# Altium schematic symbol library WL-SMTW.SchLib: 56 symbols (part 1 of 2)
Pins are listed as number, name and electrical type; pins without a type are passive.

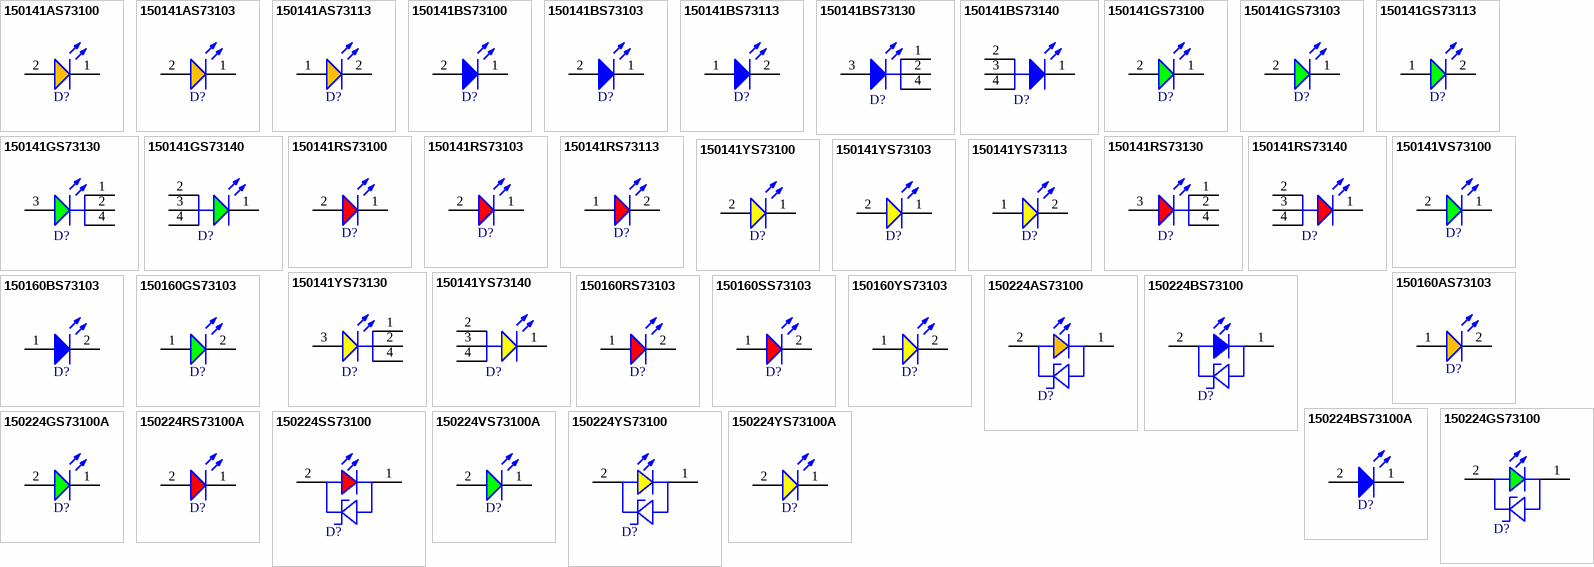
[diagram p0: symbols 150141AS73100 to 150224YS73100A]

## 150141AS73100
designator D?, comment Amber, 2V, 120°  (value not drawn)
WL-SMTW Mono-color TOP LED Waterclear, SMT, size 3528, Amber, 2V, 120°; Manufacturer Part Number: 150141AS73100; Manufacturer: Wurth Elektronik; Case/Size Code: 3528; Chip Technology: AlInGaP; Dominant Wavelength: 605nm; Luminous Intensity: 330mcd; Peak Wavelength: 610nm; Category: Signal LEDs; Match Code: WL-SMTW; ComponentLink1Description: Website Link; ComponentLink1URL: https://www.we-online.com/redexpert/article/150141AS73100?ad; ComponentLink2Description: Datasheet Link; ComponentLink2URL: https://www.we-online.com/redexpert/spec/150141AS73100?ad; Mount: Surface Mount; Operating Temperature Max: 85°C; Operating Temperature Min: -40°C; Packaging: Tape and Reel; Length: 3.5mm; Width: 2.8mm; Height: 1.9mm; Emitting Color: Amber; Forward Voltage: 2V; Viewing Angle: 120°
footprint WL-SMTW_3528
simulation model 3528_150141AS73100
pins: 1 K, 2 A

## 150141AS73103
designator D?, comment Amber, 2.1V, 120°  (value not drawn)
WL-SMTW Mono-color TOP LED Waterclear, SMT, size 3528 HIGHTA, Amber, 2.1V, 120°; Manufacturer Part Number: 150141AS73103; Manufacturer: Wurth Elektronik; Chip Technology: AlGaInP; Dominant Wavelength: 605nm; Luminous Intensity: 320mcd; Peak Wavelength: 610nm; Category: Signal LEDs; Match Code: WL-SMTW; ComponentLink1Description: Website Link; ComponentLink1URL: https://www.we-online.com/redexpert/article/150141AS73103?ad; ComponentLink2Description: Datasheet Link; ComponentLink2URL: https://www.we-online.com/redexpert/spec/150141AS73103?ad; Mount: Surface Mount; Operating Temperature Max: 100°C; Operating Temperature Min: -40°C; Packaging: Tape and Reel; Case/Size Code: 3528 HIGHTA; Length: 3.5mm; Width: 2.8mm; Height: 1.85mm; Emitting Color: Amber; Forward Voltage: 2.1V; Viewing Angle: 120°
footprint WL-SMTW_3528 HIGHTA
pins: 1 K, 2 A

## 150141AS73113
designator D?, comment Amber, 2.2V, 120°  (value not drawn)
WL-SMTW Mono-color TOP LED Waterclear, SMT, size 3528 Advance, Amber, 2.2V, 120°; Manufacturer Part Number: 150141AS73113; Manufacturer: Wurth Elektronik; Chip Technology: AlInGaP; Dominant Wavelength: 609nm; Luminous Intensity: 800mcd; Peak Wavelength: 615nm; Category: Signal LEDs; Match Code: WL-SMTW; ComponentLink1Description: Website Link; ComponentLink1URL: https://www.we-online.com/redexpert/article/150141AS73113?ad; ComponentLink2Description: Datasheet Link; ComponentLink2URL: https://www.we-online.com/redexpert/spec/150141AS73113?ad; Mount: Surface Mount; Operating Temperature Max: 85°C; Operating Temperature Min: -40°C; Packaging: Tape and Reel; Case/Size Code: 3528 Advance; Length: 3.5mm; Width: 2.8mm; Height: 1.9mm; Emitting Color: Amber; Forward Voltage: 2.2V; Viewing Angle: 120°
footprint WL-SMTW_3528 Advance
simulation model 3528_150141AS73113
pins: 1 A, 2 K

## 150141BS73100
designator D?, comment Blue, 3.2V, 120°  (value not drawn)
WL-SMTW Mono-color TOP LED Waterclear, SMT, size 3528, Blue, 3.2V, 120°; Manufacturer Part Number: 150141BS73100; Manufacturer: Wurth Elektronik; Case/Size Code: 3528; Chip Technology: InGaN; Dominant Wavelength: 470nm; Luminous Intensity: 270mcd; Peak Wavelength: 465nm; Category: Signal LEDs; Match Code: WL-SMTW; ComponentLink1Description: Website Link; ComponentLink1URL: https://www.we-online.com/redexpert/article/150141BS73100?ad; ComponentLink2Description: Datasheet Link; ComponentLink2URL: https://www.we-online.com/redexpert/spec/150141BS73100?ad; Mount: Surface Mount; Operating Temperature Max: 85°C; Operating Temperature Min: -40°C; Packaging: Tape and Reel; Length: 3.5mm; Width: 2.8mm; Height: 1.9mm; Emitting Color: Blue; Forward Voltage: 3.2V; Viewing Angle: 120°
footprint WL-SMTW_3528
simulation model 3528_150141BS73100
pins: 1 K, 2 A

## 150141BS73103
designator D?, comment Blue, 3V, 120°  (value not drawn)
WL-SMTW Mono-color TOP LED Waterclear, SMT, size 3528 HIGHTA, Blue, 3V, 120°; Manufacturer Part Number: 150141BS73103; Manufacturer: Wurth Elektronik; Chip Technology: InGaN; Dominant Wavelength: 470nm; Luminous Intensity: 440mcd; Peak Wavelength: 465nm; Category: Signal LEDs; Match Code: WL-SMTW; ComponentLink1Description: Website Link; ComponentLink1URL: https://www.we-online.com/redexpert/article/150141BS73103?ad; ComponentLink2Description: Datasheet Link; ComponentLink2URL: https://www.we-online.com/redexpert/spec/150141BS73103?ad; Mount: Surface Mount; Operating Temperature Max: 100°C; Operating Temperature Min: -40°C; Packaging: Tape and Reel; Case/Size Code: 3528 HIGHTA; Length: 3.5mm; Width: 2.8mm; Height: 1.85mm; Emitting Color: Blue; Forward Voltage: 3V; Viewing Angle: 120°
footprint WL-SMTW_3528 HIGHTA
pins: 1 K, 2 A

## 150141BS73113
designator D?, comment Blue, 3.2V, 120°  (value not drawn)
WL-SMTW Mono-color TOP LED Waterclear, SMT, size 3528 Advance, Blue, 3.2V, 120°; Manufacturer Part Number: 150141BS73113; Manufacturer: Wurth Elektronik; Chip Technology: InGaN; Dominant Wavelength: 467nm; Luminous Intensity: 530mcd; Peak Wavelength: 463nm; Category: Signal LEDs; Match Code: WL-SMTW; ComponentLink1Description: Website Link; ComponentLink1URL: https://www.we-online.com/redexpert/article/150141BS73113?ad; ComponentLink2Description: Datasheet Link; ComponentLink2URL: https://www.we-online.com/redexpert/spec/150141BS73113?ad; Mount: Surface Mount; Operating Temperature Max: 85°C; Operating Temperature Min: -40°C; Packaging: Tape and Reel; Case/Size Code: 3528 Advance; Length: 3.5mm; Width: 2.8mm; Height: 1.9mm; Emitting Color: Blue; Forward Voltage: 3.2V; Viewing Angle: 120°
footprint WL-SMTW_3528 Advance
simulation model 3528_150141BS73113
pins: 1 A, 2 K

## 150141BS73130
designator D?, comment Blue, 3.2V, 120°  (value not drawn)
WL-SMTW Mono-color TOP LED Waterclear, SMT, size 3528 LPCC 4, Blue, 3.2V, 120°; Manufacturer Part Number: 150141BS73130; Manufacturer: Wurth Elektronik; Chip Technology: InGaN; Dominant Wavelength: 470nm; Luminous Intensity: 1000mcd; Peak Wavelength: 465nm; Category: Signal LEDs; Match Code: WL-SMTW; ComponentLink1Description: Website Link; ComponentLink1URL: https://www.we-online.com/redexpert/article/150141BS73130?ad; ComponentLink2Description: Datasheet Link; ComponentLink2URL: https://www.we-online.com/redexpert/spec/150141BS73130?ad; Mount: Surface Mount; Operating Temperature Max: 85°C; Operating Temperature Min: -40°C; Packaging: Tape and Reel; Case/Size Code: 3528 LPCC 4; Length: 3.5mm; Width: 2.8mm; Height: 1.85mm; Emitting Color: Blue; Forward Voltage: 3.2V; Viewing Angle: 120°
footprint WL-SMTW_3528 LPCC 4
simulation model 3528_150141BS73130
pins: 1 K, 2 K, 3 A, 4 K

## 150141BS73140
designator D?, comment Blue, 3.2V, 120°  (value not drawn)
WL-SMTW Mono-color TOP LED Waterclear, SMT, size 3528 LPCC 4, Blue, 3.2V, 120°; Manufacturer Part Number: 150141BS73140; Manufacturer: Wurth Elektronik; Chip Technology: InGaN; Dominant Wavelength: 470nm; Luminous Intensity: 1000mcd; Peak Wavelength: 465nm; Category: Signal LEDs; Match Code: WL-SMTW; ComponentLink1Description: Website Link; ComponentLink1URL: https://www.we-online.com/redexpert/article/150141BS73140?ad; ComponentLink2Description: Datasheet Link; ComponentLink2URL: https://www.we-online.com/redexpert/spec/150141BS73140?ad; Mount: Surface Mount; Operating Temperature Max: 85°C; Operating Temperature Min: -40°C; Packaging: Tape and Reel; Case/Size Code: 3528 LPCC 4; Length: 3.5mm; Width: 2.8mm; Height: 1.85mm; Emitting Color: Blue; Forward Voltage: 3.2V; Viewing Angle: 120°
footprint WL-SMTW_3528 LPCC 4
simulation model 3528_150141BS73140
pins: 1 K, 2 A, 3 A, 4 A

## 150141GS73100
designator D?, comment Green, 3.1V, 120°  (value not drawn)
WL-SMTW Mono-color TOP LED Waterclear, SMT, size 3528, Green, 3.1V, 120°; Manufacturer Part Number: 150141GS73100; Manufacturer: Wurth Elektronik; Case/Size Code: 3528; Chip Technology: InGaN; Dominant Wavelength: 525nm; Luminous Intensity: 1000mcd; Peak Wavelength: 515nm; Category: Signal LEDs; Match Code: WL-SMTW; ComponentLink1Description: Website Link; ComponentLink1URL: https://www.we-online.com/redexpert/article/150141GS73100?ad; ComponentLink2Description: Datasheet Link; ComponentLink2URL: https://www.we-online.com/redexpert/spec/150141GS73100?ad; Mount: Surface Mount; Operating Temperature Max: 85°C; Operating Temperature Min: -40°C; Packaging: Tape and Reel; Length: 3.5mm; Width: 2.8mm; Height: 1.9mm; Emitting Color: Green; Forward Voltage: 3.1V; Viewing Angle: 120°
footprint WL-SMTW_3528
simulation model 3528_150141GS73100
pins: 1 K, 2 A

## 150141GS73103
designator D?, comment Green, 3V, 120°  (value not drawn)
WL-SMTW Mono-color TOP LED Waterclear, SMT, size 3528 HIGHTA, Green, 3V, 120°; Manufacturer Part Number: 150141GS73103; Manufacturer: Wurth Elektronik; Chip Technology: InGaN; Dominant Wavelength: 525nm; Luminous Intensity: 2100mcd; Peak Wavelength: 515nm; Category: Signal LEDs; Match Code: WL-SMTW; ComponentLink1Description: Website Link; ComponentLink1URL: https://www.we-online.com/redexpert/article/150141GS73103?ad; ComponentLink2Description: Datasheet Link; ComponentLink2URL: https://www.we-online.com/redexpert/spec/150141GS73103?ad; Mount: Surface Mount; Operating Temperature Max: 100°C; Operating Temperature Min: -40°C; Packaging: Tape and Reel; Case/Size Code: 3528 HIGHTA; Length: 3.5mm; Width: 2.8mm; Height: 1.85mm; Emitting Color: Green; Forward Voltage: 3V; Viewing Angle: 120°
footprint WL-SMTW_3528 HIGHTA
pins: 1 K, 2 A

## 150141GS73113
designator D?, comment Green, 3V, 120°  (value not drawn)
WL-SMTW Mono-color TOP LED Waterclear, SMT, size 3528 Advance, Green, 3V, 120°; Manufacturer Part Number: 150141GS73113; Manufacturer: Wurth Elektronik; Chip Technology: InGaN; Dominant Wavelength: 522nm; Luminous Intensity: 2500mcd; Peak Wavelength: 517nm; Category: Signal LEDs; Match Code: WL-SMTW; ComponentLink1Description: Website Link; ComponentLink1URL: https://www.we-online.com/redexpert/article/150141GS73113?ad; ComponentLink2Description: Datasheet Link; ComponentLink2URL: https://www.we-online.com/redexpert/spec/150141GS73113?ad; Mount: Surface Mount; Operating Temperature Max: 85°C; Operating Temperature Min: -40°C; Packaging: Tape and Reel; Case/Size Code: 3528 Advance; Length: 3.5mm; Width: 2.8mm; Height: 1.9mm; Emitting Color: Green; Forward Voltage: 3V; Viewing Angle: 120°
footprint WL-SMTW_3528 Advance
simulation model 3528_150141GS73113
pins: 1 A, 2 K

## 150141GS73130
designator D?, comment Green, 3.2V, 120°  (value not drawn)
WL-SMTW Mono-color TOP LED Waterclear, SMT, size 3528 LPCC 4, Green, 3.2V, 120°; Manufacturer Part Number: 150141GS73130; Manufacturer: Wurth Elektronik; Chip Technology: InGaN; Dominant Wavelength: 520nm; Luminous Intensity: 5000mcd; Peak Wavelength: 515nm; Category: Signal LEDs; Match Code: WL-SMTW; ComponentLink1Description: Website Link; ComponentLink1URL: https://www.we-online.com/redexpert/article/150141GS73130?ad; ComponentLink2Description: Datasheet Link; ComponentLink2URL: https://www.we-online.com/redexpert/spec/150141GS73130?ad; Mount: Surface Mount; Operating Temperature Max: 85°C; Operating Temperature Min: -40°C; Packaging: Tape and Reel; Case/Size Code: 3528 LPCC 4; Length: 3.5mm; Width: 2.8mm; Height: 1.85mm; Emitting Color: Green; Forward Voltage: 3.2V; Viewing Angle: 120°
footprint WL-SMTW_3528 LPCC 4
simulation model 3528_150141GS73130
pins: 1 K, 2 K, 3 A, 4 K

## 150141GS73140
designator D?, comment Green, 3.2V, 120°  (value not drawn)
WL-SMTW Mono-color TOP LED Waterclear, SMT, size 3528 LPCC 4, Green, 3.2V, 120°; Manufacturer Part Number: 150141GS73140; Manufacturer: Wurth Elektronik; Chip Technology: InGaN; Dominant Wavelength: 520nm; Luminous Intensity: 5000mcd; Peak Wavelength: 515nm; Category: Signal LEDs; Match Code: WL-SMTW; ComponentLink1Description: Website Link; ComponentLink1URL: https://www.we-online.com/redexpert/article/150141GS73140?ad; ComponentLink2Description: Datasheet Link; ComponentLink2URL: https://www.we-online.com/redexpert/spec/150141GS73140?ad; Mount: Surface Mount; Operating Temperature Max: 85°C; Operating Temperature Min: -40°C; Packaging: Tape and Reel; Case/Size Code: 3528 LPCC 4; Length: 3.5mm; Width: 2.8mm; Height: 1.85mm; Emitting Color: Green; Forward Voltage: 3.2V; Viewing Angle: 120°
footprint WL-SMTW_3528 LPCC 4
simulation model 3528_150141GS73140
pins: 1 K, 2 A, 3 A, 4 A

## 150141RS73100
designator D?, comment Red, 2V, 120°  (value not drawn)
WL-SMTW Mono-color TOP LED Waterclear, SMT, size 3528, Red, 2V, 120°; Manufacturer Part Number: 150141RS73100; Manufacturer: Wurth Elektronik; Case/Size Code: 3528; Chip Technology: AlInGaP; Dominant Wavelength: 625nm; Luminous Intensity: 300mcd; Peak Wavelength: 630nm; Category: Signal LEDs; Match Code: WL-SMTW; ComponentLink1Description: Website Link; ComponentLink1URL: https://www.we-online.com/redexpert/article/150141RS73100?ad; ComponentLink2Description: Datasheet Link; ComponentLink2URL: https://www.we-online.com/redexpert/spec/150141RS73100?ad; Mount: Surface Mount; Operating Temperature Max: 85°C; Operating Temperature Min: -40°C; Packaging: Tape and Reel; Length: 3.5mm; Width: 2.8mm; Height: 1.9mm; Emitting Color: Red; Forward Voltage: 2V; Viewing Angle: 120°
footprint WL-SMTW_3528
simulation model 3528_150141RS73100
pins: 1 K, 2 A

## 150141RS73103
designator D?, comment Red, 2.1V, 120°  (value not drawn)
WL-SMTW Mono-color TOP LED Waterclear, SMT, size 3528 HIGHTA, Red, 2.1V, 120°; Manufacturer Part Number: 150141RS73103; Manufacturer: Wurth Elektronik; Chip Technology: AlGaInP; Dominant Wavelength: 625nm; Luminous Intensity: 280mcd; Peak Wavelength: 630nm; Category: Signal LEDs; Match Code: WL-SMTW; ComponentLink1Description: Website Link; ComponentLink1URL: https://www.we-online.com/redexpert/article/150141RS73103?ad; ComponentLink2Description: Datasheet Link; ComponentLink2URL: https://www.we-online.com/redexpert/spec/150141RS73103?ad; Mount: Surface Mount; Operating Temperature Max: 100°C; Operating Temperature Min: -40°C; Packaging: Tape and Reel; Case/Size Code: 3528 HIGHTA; Length: 3.5mm; Width: 2.8mm; Height: 1.85mm; Emitting Color: Red; Forward Voltage: 2.1V; Viewing Angle: 120°
footprint WL-SMTW_3528 HIGHTA
pins: 1 K, 2 A

## 150141RS73113
designator D?, comment Red, 2.2V, 120°  (value not drawn)
WL-SMTW Mono-color TOP LED Waterclear, SMT, size 3528 Advance, Red, 2.2V, 120°; Manufacturer Part Number: 150141RS73113; Manufacturer: Wurth Elektronik; Chip Technology: AlInGaP; Dominant Wavelength: 620nm; Luminous Intensity: 900mcd; Peak Wavelength: 629nm; Category: Signal LEDs; Match Code: WL-SMTW; ComponentLink1Description: Website Link; ComponentLink1URL: https://www.we-online.com/redexpert/article/150141RS73113?ad; ComponentLink2Description: Datasheet Link; ComponentLink2URL: https://www.we-online.com/redexpert/spec/150141RS73113?ad; Mount: Surface Mount; Operating Temperature Max: 85°C; Operating Temperature Min: -40°C; Packaging: Tape and Reel; Case/Size Code: 3528 Advance; Length: 3.5mm; Width: 2.8mm; Height: 1.9mm; Emitting Color: Red; Forward Voltage: 2.2V; Viewing Angle: 120°
footprint WL-SMTW_3528 Advance
simulation model 3528_150141RS73113
pins: 1 A, 2 K

## 150141RS73130
designator D?, comment Red, 2.4V, 120°  (value not drawn)
WL-SMTW Mono-color TOP LED Waterclear, SMT, size 3528 LPCC 4, Red, 2.4V, 120°; Manufacturer Part Number: 150141RS73130; Manufacturer: Wurth Elektronik; Chip Technology: AlInGaP; Dominant Wavelength: 620nm; Luminous Intensity: 3000mcd; Peak Wavelength: 630nm; Category: Signal LEDs; Match Code: WL-SMTW; ComponentLink1Description: Website Link; ComponentLink1URL: https://www.we-online.com/redexpert/article/150141RS73130?ad; ComponentLink2Description: Datasheet Link; ComponentLink2URL: https://www.we-online.com/redexpert/spec/150141RS73130?ad; Mount: Surface Mount; Operating Temperature Max: 85°C; Operating Temperature Min: -40°C; Packaging: Tape and Reel; Case/Size Code: 3528 LPCC 4; Length: 3.5mm; Width: 2.8mm; Height: 1.85mm; Emitting Color: Red; Forward Voltage: 2.4V; Viewing Angle: 120°
footprint WL-SMTW_3528 LPCC 4
simulation model 3528_150141RS73130
pins: 1 K, 2 K, 3 A, 4 K

## 150141RS73140
designator D?, comment Red, 2.4V, 120°  (value not drawn)
WL-SMTW Mono-color TOP LED Waterclear, SMT, size 3528 LPCC 4, Red, 2.4V, 120°; Manufacturer Part Number: 150141RS73140; Manufacturer: Wurth Elektronik; Chip Technology: AlInGaP; Dominant Wavelength: 620nm; Luminous Intensity: 3000mcd; Peak Wavelength: 630nm; Category: Signal LEDs; Match Code: WL-SMTW; ComponentLink1Description: Website Link; ComponentLink1URL: https://www.we-online.com/redexpert/article/150141RS73140?ad; ComponentLink2Description: Datasheet Link; ComponentLink2URL: https://www.we-online.com/redexpert/spec/150141RS73140?ad; Mount: Surface Mount; Operating Temperature Max: 85°C; Operating Temperature Min: -40°C; Packaging: Tape and Reel; Case/Size Code: 3528 LPCC 4; Length: 3.5mm; Width: 2.8mm; Height: 1.85mm; Emitting Color: Red; Forward Voltage: 2.4V; Viewing Angle: 120°
footprint WL-SMTW_3528 LPCC 4
simulation model 3528_150141RS73140
pins: 1 K, 2 A, 3 A, 4 A

## 150141VS73100
designator D?, comment Bright Green, 2V, 120°  (value not drawn)
WL-SMTW Mono-color TOP LED Waterclear, SMT, size 3528, Bright Green, 2V, 120°; Manufacturer Part Number: 150141VS73100; Manufacturer: Wurth Elektronik; Case/Size Code: 3528; Chip Technology: AlInGaP; Dominant Wavelength: 570nm; Luminous Intensity: 90mcd; Peak Wavelength: 572nm; Category: Signal LEDs; Match Code: WL-SMTW; ComponentLink1Description: Website Link; ComponentLink1URL: https://www.we-online.com/redexpert/article/150141VS73100?ad; ComponentLink2Description: Datasheet Link; ComponentLink2URL: https://www.we-online.com/redexpert/spec/150141VS73100?ad; Mount: Surface Mount; Operating Temperature Max: 85°C; Operating Temperature Min: -40°C; Packaging: Tape and Reel; Length: 3.5mm; Width: 2.8mm; Height: 1.9mm; Emitting Color: Bright Green; Forward Voltage: 2V; Viewing Angle: 120°
footprint WL-SMTW_3528
simulation model 3528_150141VS73100
pins: 1 K, 2 A

## 150141YS73100
designator D?, comment Yellow, 2V, 120°  (value not drawn)
WL-SMTW Mono-color TOP LED Waterclear, SMT, size 3528, Yellow, 2V, 120°; Manufacturer Part Number: 150141YS73100; Manufacturer: Wurth Elektronik; Case/Size Code: 3528; Chip Technology: AlInGaP; Dominant Wavelength: 590nm; Luminous Intensity: 260mcd; Peak Wavelength: 592nm; Category: Signal LEDs; Match Code: WL-SMTW; ComponentLink1Description: Website Link; ComponentLink1URL: https://www.we-online.com/redexpert/article/150141YS73100?ad; ComponentLink2Description: Datasheet Link; ComponentLink2URL: https://www.we-online.com/redexpert/spec/150141YS73100?ad; Mount: Surface Mount; Operating Temperature Max: 85°C; Operating Temperature Min: -40°C; Packaging: Tape and Reel; Length: 3.5mm; Width: 2.8mm; Height: 1.9mm; Emitting Color: Yellow; Forward Voltage: 2V; Viewing Angle: 120°
footprint WL-SMTW_3528
simulation model 3528_150141YS73100
pins: 1 K, 2 A

## 150141YS73103
designator D?, comment Yellow, 2.1V, 120°  (value not drawn)
WL-SMTW Mono-color TOP LED Waterclear, SMT, size 3528 HIGHTA, Yellow, 2.1V, 120°; Manufacturer Part Number: 150141YS73103; Manufacturer: Wurth Elektronik; Chip Technology: AlGaInP; Dominant Wavelength: 590nm; Luminous Intensity: 370mcd; Peak Wavelength: 592nm; Category: Signal LEDs; Match Code: WL-SMTW; ComponentLink1Description: Website Link; ComponentLink1URL: https://www.we-online.com/redexpert/article/150141YS73103?ad; ComponentLink2Description: Datasheet Link; ComponentLink2URL: https://www.we-online.com/redexpert/spec/150141YS73103?ad; Mount: Surface Mount; Operating Temperature Max: 100°C; Operating Temperature Min: -40°C; Packaging: Tape and Reel; Case/Size Code: 3528 HIGHTA; Length: 3.5mm; Width: 2.8mm; Height: 1.85mm; Emitting Color: Yellow; Forward Voltage: 2.1V; Viewing Angle: 120°
footprint WL-SMTW_3528 HIGHTA
pins: 1 K, 2 A

## 150141YS73113
designator D?, comment Yellow, 2.2V, 120°  (value not drawn)
WL-SMTW Mono-color TOP LED Waterclear, SMT, size 3528 Advance, Yellow, 2.2V, 120°; Manufacturer Part Number: 150141YS73113; Manufacturer: Wurth Elektronik; Chip Technology: AlInGaP; Dominant Wavelength: 590nm; Luminous Intensity: 1000mcd; Peak Wavelength: 592nm; Category: Signal LEDs; Match Code: WL-SMTW; ComponentLink1Description: Website Link; ComponentLink1URL: https://www.we-online.com/redexpert/article/150141YS73113?ad; ComponentLink2Description: Datasheet Link; ComponentLink2URL: https://www.we-online.com/redexpert/spec/150141YS73113?ad; Mount: Surface Mount; Operating Temperature Max: 85°C; Operating Temperature Min: -40°C; Packaging: Tape and Reel; Case/Size Code: 3528 Advance; Length: 3.5mm; Width: 2.8mm; Height: 1.9mm; Emitting Color: Yellow; Forward Voltage: 2.2V; Viewing Angle: 120°
footprint WL-SMTW_3528 Advance
simulation model 3528_150141YS73113
pins: 1 A, 2 K

## 150141YS73130
designator D?, comment Yellow, 2.4V, 120°  (value not drawn)
WL-SMTW Mono-color TOP LED Waterclear, SMT, size 3528 LPCC 4, Yellow, 2.4V, 120°; Manufacturer Part Number: 150141YS73130; Manufacturer: Wurth Elektronik; Chip Technology: AlInGaP; Dominant Wavelength: 590nm; Luminous Intensity: 2000mcd; Peak Wavelength: 592nm; Category: Signal LEDs; Match Code: WL-SMTW; ComponentLink1Description: Website Link; ComponentLink1URL: https://www.we-online.com/redexpert/article/150141YS73130?ad; ComponentLink2Description: Datasheet Link; ComponentLink2URL: https://www.we-online.com/redexpert/spec/150141YS73130?ad; Mount: Surface Mount; Operating Temperature Max: 85°C; Operating Temperature Min: -40°C; Packaging: Tape and Reel; Case/Size Code: 3528 LPCC 4; Length: 3.5mm; Width: 2.8mm; Height: 1.85mm; Emitting Color: Yellow; Forward Voltage: 2.4V; Viewing Angle: 120°
footprint WL-SMTW_3528 LPCC 4
simulation model 3528_150141YS73130
pins: 1 K, 2 K, 3 A, 4 K

## 150141YS73140
designator D?, comment Yellow, 2.4V, 120°  (value not drawn)
WL-SMTW Mono-color TOP LED Waterclear, SMT, size 3528 LPCC 4, Yellow, 2.4V, 120°; Manufacturer Part Number: 150141YS73140; Manufacturer: Wurth Elektronik; Chip Technology: AlInGaP; Dominant Wavelength: 590nm; Luminous Intensity: 2000mcd; Peak Wavelength: 592nm; Category: Signal LEDs; Match Code: WL-SMTW; ComponentLink1Description: Website Link; ComponentLink1URL: https://www.we-online.com/redexpert/article/150141YS73140?ad; ComponentLink2Description: Datasheet Link; ComponentLink2URL: https://www.we-online.com/redexpert/spec/150141YS73140?ad; Mount: Surface Mount; Operating Temperature Max: 85°C; Operating Temperature Min: -40°C; Packaging: Tape and Reel; Case/Size Code: 3528 LPCC 4; Length: 3.5mm; Width: 2.8mm; Height: 1.85mm; Emitting Color: Yellow; Forward Voltage: 2.4V; Viewing Angle: 120°
footprint WL-SMTW_3528 LPCC 4
simulation model 3528_150141YS73140
pins: 1 K, 2 A, 3 A, 4 A

## 150160AS73103
designator D?, comment Amber, 2.1V, 120°  (value not drawn)
WL-SMTW Mono-color TOP LED Waterclear, SMT, size 1608, Amber, 2.1V, 120°; Manufacturer Part Number: 150160AS73103; Manufacturer: Wurth Elektronik; Case/Size Code: 1608; Chip Technology: AlGaInP; Dominant Wavelength: 605nm; Luminous Intensity: 700mcd; Peak Wavelength: 610nm; Category: Signal LEDs; Match Code: WL-SMTW; ComponentLink1Description: Website Link; ComponentLink1URL: https://www.we-online.com/redexpert/article/150160AS73103?ad; ComponentLink2Description: Datasheet Link; ComponentLink2URL: https://www.we-online.com/redexpert/spec/150160AS73103?ad; Mount: Surface Mount; Operating Temperature Max: 100°C; Operating Temperature Min: -40°C; Packaging: Tape and Reel; Length: 1.6mm; Width: 0.8mm; Height: 0.55mm; Emitting Color: Amber; Forward Voltage: 2.1V; Viewing Angle: 120°
footprint WL-SMTW_1608
pins: 1 A, 2 K

## 150160BS73103
designator D?, comment Blue, 3.1V, 120°  (value not drawn)
WL-SMTW Mono-color TOP LED Waterclear, SMT, size 1608, Blue, 3.1V, 120°; Manufacturer Part Number: 150160BS73103; Manufacturer: Wurth Elektronik; Case/Size Code: 1608; Chip Technology: InGaN; Dominant Wavelength: 470nm; Luminous Intensity: 400mcd; Peak Wavelength: 465nm; Category: Signal LEDs; Match Code: WL-SMTW; ComponentLink1Description: Website Link; ComponentLink1URL: https://www.we-online.com/redexpert/article/150160BS73103?ad; ComponentLink2Description: Datasheet Link; ComponentLink2URL: https://www.we-online.com/redexpert/spec/150160BS73103?ad; Mount: Surface Mount; Operating Temperature Max: 100°C; Operating Temperature Min: -40°C; Packaging: Tape and Reel; Length: 1.6mm; Width: 0.8mm; Height: 0.55mm; Emitting Color: Blue; Forward Voltage: 3.1V; Viewing Angle: 120°
footprint WL-SMTW_1608
pins: 1 A, 2 K

## 150160GS73103
designator D?, comment Green, 3.3V, 120°  (value not drawn)
WL-SMTW Mono-color TOP LED Waterclear, SMT, size 1608, Green, 3.3V, 120°; Manufacturer Part Number: 150160GS73103; Manufacturer: Wurth Elektronik; Case/Size Code: 1608; Chip Technology: InGaN; Dominant Wavelength: 525nm; Luminous Intensity: 1350mcd; Peak Wavelength: 515nm; Category: Signal LEDs; Match Code: WL-SMTW; ComponentLink1Description: Website Link; ComponentLink1URL: https://www.we-online.com/redexpert/article/150160GS73103?ad; ComponentLink2Description: Datasheet Link; ComponentLink2URL: https://www.we-online.com/redexpert/spec/150160GS73103?ad; Mount: Surface Mount; Operating Temperature Max: 100°C; Operating Temperature Min: -40°C; Packaging: Tape and Reel; Length: 1.6mm; Width: 0.8mm; Height: 0.55mm; Emitting Color: Green; Forward Voltage: 3.3V; Viewing Angle: 120°
footprint WL-SMTW_1608
pins: 1 A, 2 K

## 150160RS73103
designator D?, comment Red, 2.1V, 120°  (value not drawn)
WL-SMTW Mono-color TOP LED Waterclear, SMT, size 1608, Red, 2.1V, 120°; Manufacturer Part Number: 150160RS73103; Manufacturer: Wurth Elektronik; Case/Size Code: 1608; Chip Technology: AlGaInP; Dominant Wavelength: 625nm; Luminous Intensity: 800mcd; Peak Wavelength: 630nm; Category: Signal LEDs; Match Code: WL-SMTW; ComponentLink1Description: Website Link; ComponentLink1URL: https://www.we-online.com/redexpert/article/150160RS73103?ad; ComponentLink2Description: Datasheet Link; ComponentLink2URL: https://www.we-online.com/redexpert/spec/150160RS73103?ad; Mount: Surface Mount; Operating Temperature Max: 100°C; Operating Temperature Min: -40°C; Packaging: Tape and Reel; Length: 1.6mm; Width: 0.8mm; Height: 0.55mm; Emitting Color: Red; Forward Voltage: 2.1V; Viewing Angle: 120°
footprint WL-SMTW_1608
pins: 1 A, 2 K

## 150160SS73103
designator D?, comment Red, 2.1V, 120°  (value not drawn)
WL-SMTW Mono-color TOP LED Waterclear, SMT, size 1608, Red, 2.1V, 120°; Manufacturer Part Number: 150160SS73103; Manufacturer: Wurth Elektronik; Case/Size Code: 1608; Chip Technology: AlGaInP; Dominant Wavelength: 630nm; Luminous Intensity: 540mcd; Peak Wavelength: 640nm; Category: Signal LEDs; Match Code: WL-SMTW; ComponentLink1Description: Website Link; ComponentLink1URL: https://www.we-online.com/redexpert/article/150160SS73103?ad; ComponentLink2Description: Datasheet Link; ComponentLink2URL: https://www.we-online.com/redexpert/spec/150160SS73103?ad; Mount: Surface Mount; Operating Temperature Max: 100°C; Operating Temperature Min: -40°C; Packaging: Tape and Reel; Length: 1.6mm; Width: 0.8mm; Height: 0.55mm; Emitting Color: Red; Forward Voltage: 2.1V; Viewing Angle: 120°
footprint WL-SMTW_1608
pins: 1 A, 2 K

## 150160YS73103
designator D?, comment Yellow, 2.1V, 120°  (value not drawn)
WL-SMTW Mono-color TOP LED Waterclear, SMT, size 1608, Yellow, 2.1V, 120°; Manufacturer Part Number: 150160YS73103; Manufacturer: Wurth Elektronik; Case/Size Code: 1608; Chip Technology: AlGaInP; Dominant Wavelength: 590nm; Luminous Intensity: 700mcd; Peak Wavelength: 592nm; Category: Signal LEDs; Match Code: WL-SMTW; ComponentLink1Description: Website Link; ComponentLink1URL: https://www.we-online.com/redexpert/article/150160YS73103?ad; ComponentLink2Description: Datasheet Link; ComponentLink2URL: https://www.we-online.com/redexpert/spec/150160YS73103?ad; Mount: Surface Mount; Operating Temperature Max: 100°C; Operating Temperature Min: -40°C; Packaging: Tape and Reel; Length: 1.6mm; Width: 0.8mm; Height: 0.55mm; Emitting Color: Yellow; Forward Voltage: 2.1V; Viewing Angle: 120°
footprint WL-SMTW_1608
pins: 1 A, 2 K

## 150224AS73100
designator D?, comment Amber, 2V, 120°  (value not drawn)
WL-SMTW Mono-color TOP LED Waterclear, SMT, size 2214, Amber, 2V, 120°; Manufacturer Part Number: 150224AS73100; Manufacturer: Wurth Elektronik; Case/Size Code: 2214; Chip Technology: AlInGaP; Dominant Wavelength: 605nm; Luminous Intensity: 210mcd; Peak Wavelength: 609nm; Category: Signal LEDs; Match Code: WL-SMTW; ComponentLink1Description: Website Link; ComponentLink1URL: https://www.we-online.com/redexpert/article/150224AS73100?ad; ComponentLink2Description: Datasheet Link; ComponentLink2URL: https://www.we-online.com/redexpert/spec/150224AS73100?ad; Mount: Surface Mount; Operating Temperature Max: 85°C; Operating Temperature Min: -40°C; Packaging: Tape and Reel; Length: 2.3mm; Width: 1.4mm; Height: 1.31mm; Emitting Color: Amber; Forward Voltage: 2V; Viewing Angle: 120°
footprint WL-SMTW_2214
simulation model 2214_150224AS73100
pins: 1 K, 2 A

## 150224BS73100
designator D?, comment Blue, 3V, 120°  (value not drawn)
WL-SMTW Mono-color TOP LED Waterclear, SMT, size 2214, Blue, 3V, 120°; Manufacturer Part Number: 150224BS73100; Manufacturer: Wurth Elektronik; Case/Size Code: 2214; Chip Technology: InGaN; Dominant Wavelength: 456nm; Luminous Intensity: 220mcd; Peak Wavelength: 452nm; Category: Signal LEDs; Match Code: WL-SMTW; ComponentLink1Description: Website Link; ComponentLink1URL: https://www.we-online.com/redexpert/article/150224BS73100?ad; ComponentLink2Description: Datasheet Link; ComponentLink2URL: https://www.we-online.com/redexpert/spec/150224BS73100?ad; Mount: Surface Mount; Operating Temperature Max: 85°C; Operating Temperature Min: -40°C; Packaging: Tape and Reel; Length: 2.3mm; Width: 1.4mm; Height: 1.31mm; Emitting Color: Blue; Forward Voltage: 3V; Viewing Angle: 120°
footprint WL-SMTW_2214
simulation model 2214_150224BS73100
pins: 1 K, 2 A

## 150224BS73100A
designator D?, comment Blue, 3.2V, 120°  (value not drawn)
WL-SMTW Mono-color TOP LED Waterclear, SMT, size 2214, Blue, 3.2V, 120°; Manufacturer Part Number: 150224BS73100A; Manufacturer: Wurth Elektronik; Case/Size Code: 2214; Chip Technology: InGaN; Dominant Wavelength: 470nm; Luminous Intensity: 320mcd; Peak Wavelength: 465nm; Category: Signal LEDs; Match Code: WL-SMTW; ComponentLink1Description: Website Link; ComponentLink1URL: https://www.we-online.com/redexpert/article/150224BS73100A?ad; ComponentLink2Description: Datasheet Link; ComponentLink2URL: https://www.we-online.com/redexpert/spec/150224BS73100A?ad; Mount: Surface Mount; Operating Temperature Max: 85°C; Operating Temperature Min: -40°C; Packaging: Tape and Reel; Length: 2.3mm; Width: 1.4mm; Height: 1.31mm; Emitting Color: Blue; Forward Voltage: 3.2V; Viewing Angle: 120°
footprint WL-SMTW_2214
simulation model 2214_150224BS73100A
pins: 1 K, 2 A

## 150224GS73100
designator D?, comment Green, 3V, 120°  (value not drawn)
WL-SMTW Mono-color TOP LED Waterclear, SMT, size 2214, Green, 3V, 120°; Manufacturer Part Number: 150224GS73100; Manufacturer: Wurth Elektronik; Case/Size Code: 2214; Chip Technology: InGaN; Dominant Wavelength: 528nm; Luminous Intensity: 1200mcd; Peak Wavelength: 519nm; Category: Signal LEDs; Match Code: WL-SMTW; ComponentLink1Description: Website Link; ComponentLink1URL: https://www.we-online.com/redexpert/article/150224GS73100?ad; ComponentLink2Description: Datasheet Link; ComponentLink2URL: https://www.we-online.com/redexpert/spec/150224GS73100?ad; Mount: Surface Mount; Operating Temperature Max: 85°C; Operating Temperature Min: -40°C; Packaging: Tape and Reel; Length: 2.3mm; Width: 1.4mm; Height: 1.31mm; Emitting Color: Green; Forward Voltage: 3V; Viewing Angle: 120°
footprint WL-SMTW_2214
simulation model 2214_150224GS73100
pins: 1 K, 2 A

## 150224GS73100A
designator D?, comment Green, 3.1V, 120°  (value not drawn)
WL-SMTW Mono-color TOP LED Waterclear, SMT, size 2214, Green, 3.1V, 120°; Manufacturer Part Number: 150224GS73100A; Manufacturer: Wurth Elektronik; Case/Size Code: 2214; Chip Technology: InGaN; Dominant Wavelength: 525nm; Luminous Intensity: 1500mcd; Peak Wavelength: 515nm; Category: Signal LEDs; Match Code: WL-SMTW; ComponentLink1Description: Website Link; ComponentLink1URL: https://www.we-online.com/redexpert/article/150224GS73100A?ad; ComponentLink2Description: Datasheet Link; ComponentLink2URL: https://www.we-online.com/redexpert/spec/150224GS73100A?ad; Mount: Surface Mount; Operating Temperature Max: 85°C; Operating Temperature Min: -40°C; Packaging: Tape and Reel; Length: 2.3mm; Width: 1.4mm; Height: 1.31mm; Emitting Color: Green; Forward Voltage: 3.1V; Viewing Angle: 120°
footprint WL-SMTW_2214
simulation model 2214_150224GS73100A
pins: 1 K, 2 A

## 150224RS73100A
designator D?, comment Red, 2V, 120°  (value not drawn)
WL-SMTW Mono-color TOP LED Waterclear, SMT, size 2214, Red, 2V, 120°; Manufacturer Part Number: 150224RS73100A; Manufacturer: Wurth Elektronik; Case/Size Code: 2214; Chip Technology: AlInGaP; Dominant Wavelength: 625nm; Luminous Intensity: 350mcd; Peak Wavelength: 630nm; Category: Signal LEDs; Match Code: WL-SMTW; ComponentLink1Description: Website Link; ComponentLink1URL: https://www.we-online.com/redexpert/article/150224RS73100A?ad; ComponentLink2Description: Datasheet Link; ComponentLink2URL: https://www.we-online.com/redexpert/spec/150224RS73100A?ad; Mount: Surface Mount; Operating Temperature Max: 85°C; Operating Temperature Min: -40°C; Packaging: Tape and Reel; Length: 2.3mm; Width: 1.4mm; Height: 1.31mm; Emitting Color: Red; Forward Voltage: 2V; Viewing Angle: 120°
footprint WL-SMTW_2214
simulation model 2214_150224RS73100A
pins: 1 K, 2 A

## 150224SS73100
designator D?, comment Super Red, 2.1V, 120°  (value not drawn)
WL-SMTW Mono-color TOP LED Waterclear, SMT, size 2214, Super Red, 2.1V, 120°; Manufacturer Part Number: 150224SS73100; Manufacturer: Wurth Elektronik; Case/Size Code: 2214; Chip Technology: AlInGaP; Dominant Wavelength: 636nm; Luminous Intensity: 130mcd; Peak Wavelength: 652nm; Category: Signal LEDs; Match Code: WL-SMTW; ComponentLink1Description: Website Link; ComponentLink1URL: https://www.we-online.com/redexpert/article/150224SS73100?ad; ComponentLink2Description: Datasheet Link; ComponentLink2URL: https://www.we-online.com/redexpert/spec/150224SS73100?ad; Mount: Surface Mount; Operating Temperature Max: 85°C; Operating Temperature Min: -40°C; Packaging: Tape and Reel; Length: 2.3mm; Width: 1.4mm; Height: 1.31mm; Emitting Color: Super Red; Forward Voltage: 2.1V; Viewing Angle: 120°
footprint WL-SMTW_2214
simulation model 2214_150224SS73100
pins: 1 K, 2 A

## 150224VS73100A
designator D?, comment Bright Green, 2V, 120°  (value not drawn)
WL-SMTW Mono-color TOP LED Waterclear, SMT, size 2214, Bright Green, 2V, 120°; Manufacturer Part Number: 150224VS73100A; Manufacturer: Wurth Elektronik; Case/Size Code: 2214; Chip Technology: AlInGaP; Dominant Wavelength: 570nm; Luminous Intensity: 70mcd; Peak Wavelength: 572nm; Category: Signal LEDs; Match Code: WL-SMTW; ComponentLink1Description: Website Link; ComponentLink1URL: https://www.we-online.com/redexpert/article/150224VS73100A?ad; ComponentLink2Description: Datasheet Link; ComponentLink2URL: https://www.we-online.com/redexpert/spec/150224VS73100A?ad; Mount: Surface Mount; Operating Temperature Max: 85°C; Operating Temperature Min: -40°C; Packaging: Tape and Reel; Length: 2.3mm; Width: 1.4mm; Height: 1.31mm; Emitting Color: Bright Green; Forward Voltage: 2V; Viewing Angle: 120°
footprint WL-SMTW_2214
simulation model 2214_150224VS73100A
pins: 1 K, 2 A

## 150224YS73100
designator D?, comment Yellow, 2.1V, 120°  (value not drawn)
WL-SMTW Mono-color TOP LED Waterclear, SMT, size 2214, Yellow, 2.1V, 120°; Manufacturer Part Number: 150224YS73100; Manufacturer: Wurth Elektronik; Case/Size Code: 2214; Chip Technology: AlInGaP; Dominant Wavelength: 586nm; Luminous Intensity: 290mcd; Peak Wavelength: 589nm; Category: Signal LEDs; Match Code: WL-SMTW; ComponentLink1Description: Website Link; ComponentLink1URL: https://www.we-online.com/redexpert/article/150224YS73100?ad; ComponentLink2Description: Datasheet Link; ComponentLink2URL: https://www.we-online.com/redexpert/spec/150224YS73100?ad; Mount: Surface Mount; Operating Temperature Max: 85°C; Operating Temperature Min: -40°C; Packaging: Tape and Reel; Length: 2.3mm; Width: 1.4mm; Height: 1.31mm; Emitting Color: Yellow; Forward Voltage: 2.1V; Viewing Angle: 120°
footprint WL-SMTW_2214
simulation model 2214_150224YS73100
pins: 1 K, 2 A

## 150224YS73100A
designator D?, comment Yellow, 2V, 120°  (value not drawn)
WL-SMTW Mono-color TOP LED Waterclear, SMT, size 2214, Yellow, 2V, 120°; Manufacturer Part Number: 150224YS73100A; Manufacturer: Wurth Elektronik; Case/Size Code: 2214; Chip Technology: AlInGaP; Dominant Wavelength: 590nm; Luminous Intensity: 330mcd; Peak Wavelength: 592nm; Category: Signal LEDs; Match Code: WL-SMTW; ComponentLink1Description: Website Link; ComponentLink1URL: https://www.we-online.com/redexpert/article/150224YS73100A?ad; ComponentLink2Description: Datasheet Link; ComponentLink2URL: https://www.we-online.com/redexpert/spec/150224YS73100A?ad; Mount: Surface Mount; Operating Temperature Max: 85°C; Operating Temperature Min: -40°C; Packaging: Tape and Reel; Length: 2.3mm; Width: 1.4mm; Height: 1.31mm; Emitting Color: Yellow; Forward Voltage: 2V; Viewing Angle: 120°
footprint WL-SMTW_2214
simulation model 2214_150224YS73100A
pins: 1 K, 2 A

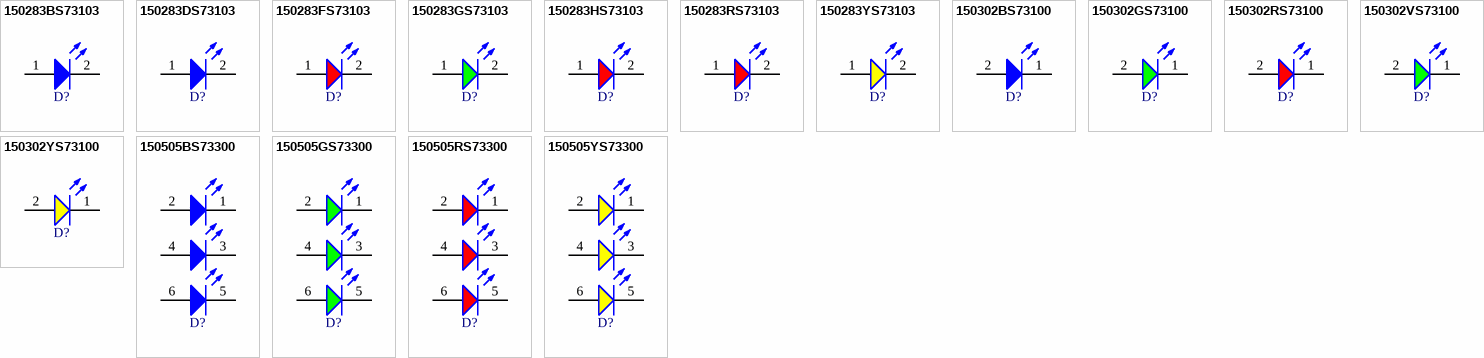
[diagram p1: symbols 150283BS73103 to 150505YS73300]

## 150283BS73103
designator D?, comment Blue, 3.2V, 120°  (value not drawn)
WL-SMTW Mono-color TOP LED Waterclear, SMT, size 2835, Blue, 3.2V, 120°; Manufacturer Part Number: 150283BS73103; Manufacturer: Wurth Elektronik; Case/Size Code: 2835; Chip Technology: InGaN; Dominant Wavelength: 467nm; Peak Wavelength: 463nm; Category: Signal LEDs; Match Code: WL-SMTW; ComponentLink1Description: Website Link; ComponentLink1URL: https://www.we-online.com/redexpert/article/150283BS73103?ad; ComponentLink2Description: Datasheet Link; ComponentLink2URL: https://www.we-online.com/redexpert/spec/150283BS73103?ad; Mount: Surface Mount; Operating Temperature Max: 85°C; Operating Temperature Min: -40°C; Packaging: Tape and Reel; Length: 3.5mm; Width: 2.8mm; Height: 0.8mm; Emitting Color: Blue; Forward Voltage: 3.2V; Viewing Angle: 120°
footprint WL-SMTW_2835
simulation model 2835_150283BS73103
pins: 1 A, 2 K

## 150283DS73103
designator D?, comment Deep Blue, 3.2V, 120°  (value not drawn)
WL-SMTW Mono-color TOP LED Waterclear, SMT, size 2835, Deep Blue, 3.2V, 120°; Manufacturer Part Number: 150283DS73103; Manufacturer: Wurth Elektronik; Case/Size Code: 2835; Chip Technology: InGaN; Peak Wavelength: 450nm; Category: Signal LEDs; Match Code: WL-SMTW; ComponentLink1Description: Website Link; ComponentLink1URL: https://www.we-online.com/redexpert/article/150283DS73103?ad; ComponentLink2Description: Datasheet Link; ComponentLink2URL: https://www.we-online.com/redexpert/spec/150283DS73103?ad; Mount: Surface Mount; Operating Temperature Max: 85°C; Operating Temperature Min: -40°C; Packaging: Tape and Reel; Length: 3.5mm; Width: 2.8mm; Height: 0.8mm; Emitting Color: Deep Blue; Forward Voltage: 3.2V; Viewing Angle: 120°
footprint WL-SMTW_2835
simulation model 2835_150283DS73103
pins: 1 A, 2 K

## 150283FS73103
designator D?, comment Far Red, 2.2V, 120°  (value not drawn)
WL-SMTW Mono-color TOP LED Waterclear, SMT, size 2835, Far Red, 2.2V, 120°; Manufacturer Part Number: 150283FS73103; Manufacturer: Wurth Elektronik; Case/Size Code: 2835; Chip Technology: AlInGaP; Emitting Color: Far Red; Peak Wavelength: 730nm; Category: Signal LEDs; Match Code: WL-SMTW; ComponentLink1Description: Website Link; ComponentLink1URL: https://www.we-online.com/redexpert/article/150283FS73103?ad; ComponentLink2Description: Datasheet Link; ComponentLink2URL: https://www.we-online.com/redexpert/spec/150283FS73103?ad; Mount: Surface Mount; Operating Temperature Max: 85°C; Operating Temperature Min: -40°C; Packaging: Tape and Reel; Length: 3.5mm; Width: 2.8mm; Height: 0.8mm; Forward Voltage: 2.2V; Viewing Angle: 120°
footprint WL-SMTW_2835
simulation model 2835_150283FS73103
pins: 1 A, 2 K

## 150283GS73103
designator D?, comment Green, 3V, 120°  (value not drawn)
WL-SMTW Mono-color TOP LED Waterclear, SMT, size 2835, Green, 3V, 120°; Manufacturer Part Number: 150283GS73103; Manufacturer: Wurth Elektronik; Case/Size Code: 2835; Chip Technology: InGaN; Dominant Wavelength: 522nm; Peak Wavelength: 517nm; Category: Signal LEDs; Match Code: WL-SMTW; ComponentLink1Description: Website Link; ComponentLink1URL: https://www.we-online.com/redexpert/article/150283GS73103?ad; ComponentLink2Description: Datasheet Link; ComponentLink2URL: https://www.we-online.com/redexpert/spec/150283GS73103?ad; Mount: Surface Mount; Operating Temperature Max: 85°C; Operating Temperature Min: -40°C; Packaging: Tape and Reel; Length: 3.5mm; Width: 2.8mm; Height: 0.8mm; Emitting Color: Green; Forward Voltage: 3V; Viewing Angle: 120°
footprint WL-SMTW_2835
simulation model 2835_150283GS73103
pins: 1 A, 2 K

## 150283HS73103
designator D?, comment Hyper Red, 2.2V, 120°  (value not drawn)
WL-SMTW Mono-color TOP LED Waterclear, SMT, size 2835, Hyper Red, 2.2V, 120°; Manufacturer Part Number: 150283HS73103; Manufacturer: Wurth Elektronik; Case/Size Code: 2835; Chip Technology: AlInGaP; Peak Wavelength: 660nm; Category: Signal LEDs; Match Code: WL-SMTW; ComponentLink1Description: Website Link; ComponentLink1URL: https://www.we-online.com/redexpert/article/150283HS73103?ad; ComponentLink2Description: Datasheet Link; ComponentLink2URL: https://www.we-online.com/redexpert/spec/150283HS73103?ad; Mount: Surface Mount; Operating Temperature Max: 85°C; Operating Temperature Min: -40°C; Packaging: Tape and Reel; Length: 3.5mm; Width: 2.8mm; Height: 0.8mm; Emitting Color: Hyper Red; Forward Voltage: 2.2V; Viewing Angle: 120°
footprint WL-SMTW_2835
simulation model 2835_150283HS73103
pins: 1 A, 2 K

## 150283RS73103
designator D?, comment Red, 2.2V, 120°  (value not drawn)
WL-SMTW Mono-color TOP LED Waterclear, SMT, size 2835, Red, 2.2V, 120°; Manufacturer Part Number: 150283RS73103; Manufacturer: Wurth Elektronik; Case/Size Code: 2835; Chip Technology: AlInGaP; Dominant Wavelength: 620nm; Peak Wavelength: 629nm; Category: Signal LEDs; Match Code: WL-SMTW; ComponentLink1Description: Website Link; ComponentLink1URL: https://www.we-online.com/redexpert/article/150283RS73103?ad; ComponentLink2Description: Datasheet Link; ComponentLink2URL: https://www.we-online.com/redexpert/spec/150283RS73103?ad; Mount: Surface Mount; Operating Temperature Max: 85°C; Operating Temperature Min: -40°C; Packaging: Tape and Reel; Length: 3.5mm; Width: 2.8mm; Height: 0.8mm; Emitting Color: Red; Forward Voltage: 2.2V; Viewing Angle: 120°
footprint WL-SMTW_2835
simulation model 2835_150283RS73103
pins: 1 A, 2 K

## 150283YS73103
designator D?, comment Yellow, 2.2V, 120°  (value not drawn)
WL-SMTW Mono-color TOP LED Waterclear, SMT, size 2835, Yellow, 2.2V, 120°; Manufacturer Part Number: 150283YS73103; Manufacturer: Wurth Elektronik; Case/Size Code: 2835; Chip Technology: AlInGaP; Dominant Wavelength: 590nm; Peak Wavelength: 592nm; Category: Signal LEDs; Match Code: WL-SMTW; ComponentLink1Description: Website Link; ComponentLink1URL: https://www.we-online.com/redexpert/article/150283YS73103?ad; ComponentLink2Description: Datasheet Link; ComponentLink2URL: https://www.we-online.com/redexpert/spec/150283YS73103?ad; Mount: Surface Mount; Operating Temperature Max: 85°C; Operating Temperature Min: -40°C; Packaging: Tape and Reel; Length: 3.5mm; Width: 2.8mm; Height: 0.8mm; Emitting Color: Yellow; Forward Voltage: 2.2V; Viewing Angle: 120°
footprint WL-SMTW_2835
simulation model 2835_150283YS73103
pins: 1 A, 2 K

## 150302BS73100
designator D?, comment Blue, 3.2V, 120°  (value not drawn)
WL-SMTW Mono-color TOP LED Waterclear, SMT, size 3020, Blue, 3.2V, 120°; Manufacturer Part Number: 150302BS73100; Manufacturer: Wurth Elektronik; Case/Size Code: 3020; Chip Technology: InGaN; Dominant Wavelength: 470nm; Luminous Intensity: 280mcd; Peak Wavelength: 465nm; Category: Signal LEDs; Match Code: WL-SMTW; ComponentLink1Description: Website Link; ComponentLink1URL: https://www.we-online.com/redexpert/article/150302BS73100?ad; ComponentLink2Description: Datasheet Link; ComponentLink2URL: https://www.we-online.com/redexpert/spec/150302BS73100?ad; Mount: Surface Mount; Operating Temperature Max: 85°C; Operating Temperature Min: -40°C; Packaging: Tape and Reel; Length: 3mm; Width: 2mm; Height: 1.3mm; Emitting Color: Blue; Forward Voltage: 3.2V; Viewing Angle: 120°
footprint WL-SMTW_3020
simulation model 3020_150302BS73100
pins: 1 K, 2 A

## 150302GS73100
designator D?, comment Green, 3.5V, 120°  (value not drawn)
WL-SMTW Mono-color TOP LED Waterclear, SMT, size 3020, Green, 3.5V, 120°; Manufacturer Part Number: 150302GS73100; Manufacturer: Wurth Elektronik; Case/Size Code: 3020; Chip Technology: InGaN; Dominant Wavelength: 525nm; Luminous Intensity: 1200mcd; Peak Wavelength: 515nm; Category: Signal LEDs; Match Code: WL-SMTW; ComponentLink1Description: Website Link; ComponentLink1URL: https://www.we-online.com/redexpert/article/150302GS73100?ad; ComponentLink2Description: Datasheet Link; ComponentLink2URL: https://www.we-online.com/redexpert/spec/150302GS73100?ad; Mount: Surface Mount; Operating Temperature Max: 85°C; Operating Temperature Min: -40°C; Packaging: Tape and Reel; Length: 3mm; Width: 2mm; Height: 1.3mm; Emitting Color: Green; Forward Voltage: 3.5V; Viewing Angle: 120°
footprint WL-SMTW_3020
simulation model 3020_150302GS73100
pins: 1 K, 2 A

## 150302RS73100
designator D?, comment Red, 2V, 120°  (value not drawn)
WL-SMTW Mono-color TOP LED Waterclear, SMT, size 3020, Red, 2V, 120°; Manufacturer Part Number: 150302RS73100; Manufacturer: Wurth Elektronik; Case/Size Code: 3020; Chip Technology: AlInGaP; Dominant Wavelength: 625nm; Luminous Intensity: 180mcd; Peak Wavelength: 630nm; Category: Signal LEDs; Match Code: WL-SMTW; ComponentLink1Description: Website Link; ComponentLink1URL: https://www.we-online.com/redexpert/article/150302RS73100?ad; ComponentLink2Description: Datasheet Link; ComponentLink2URL: https://www.we-online.com/redexpert/spec/150302RS73100?ad; Mount: Surface Mount; Operating Temperature Max: 85°C; Operating Temperature Min: -40°C; Packaging: Tape and Reel; Length: 3mm; Width: 2mm; Height: 1.3mm; Emitting Color: Red; Forward Voltage: 2V; Viewing Angle: 120°
footprint WL-SMTW_3020
simulation model 3020_150302RS73100
pins: 1 K, 2 A

## 150302VS73100
designator D?, comment Bright Green, 2V, 120°  (value not drawn)
WL-SMTW Mono-color TOP LED Waterclear, SMT, size 3020, Bright Green, 2V, 120°; Manufacturer Part Number: 150302VS73100; Manufacturer: Wurth Elektronik; Case/Size Code: 3020; Chip Technology: AlInGaP; Dominant Wavelength: 570nm; Luminous Intensity: 70mcd; Peak Wavelength: 572nm; Category: Signal LEDs; Match Code: WL-SMTW; ComponentLink1Description: Website Link; ComponentLink1URL: https://www.we-online.com/redexpert/article/150302VS73100?ad; ComponentLink2Description: Datasheet Link; ComponentLink2URL: https://www.we-online.com/redexpert/spec/150302VS73100?ad; Mount: Surface Mount; Operating Temperature Max: 85°C; Operating Temperature Min: -40°C; Packaging: Tape and Reel; Length: 3mm; Width: 2mm; Height: 1.3mm; Emitting Color: Bright Green; Forward Voltage: 2V; Viewing Angle: 120°
footprint WL-SMTW_3020
simulation model 3020_150302VS73100
pins: 1 K, 2 A

## 150302YS73100
designator D?, comment Yellow, 2V, 120°  (value not drawn)
WL-SMTW Mono-color TOP LED Waterclear, SMT, size 3020, Yellow, 2V, 120°; Manufacturer Part Number: 150302YS73100; Manufacturer: Wurth Elektronik; Case/Size Code: 3020; Chip Technology: AlInGaP; Dominant Wavelength: 590nm; Luminous Intensity: 250mcd; Peak Wavelength: 592nm; Category: Signal LEDs; Match Code: WL-SMTW; ComponentLink1Description: Website Link; ComponentLink1URL: https://www.we-online.com/redexpert/article/150302YS73100?ad; ComponentLink2Description: Datasheet Link; ComponentLink2URL: https://www.we-online.com/redexpert/spec/150302YS73100?ad; Mount: Surface Mount; Operating Temperature Max: 85°C; Operating Temperature Min: -40°C; Packaging: Tape and Reel; Length: 3mm; Width: 2mm; Height: 1.3mm; Emitting Color: Yellow; Forward Voltage: 2V; Viewing Angle: 120°
footprint WL-SMTW_3020
simulation model 3020_150302YS73100
pins: 1 K, 2 A

## 150505BS73300
designator D?, comment Blue, 3.3V, 120°  (value not drawn)
WL-SMTW Mono-color TOP LED Waterclear, SMT, size 5050, Blue, 3.3V, 120°; Manufacturer Part Number: 150505BS73300; Manufacturer: Wurth Elektronik; Case/Size Code: 5050; Chip Technology: InGaN; Dominant Wavelength: 470nm; Luminous Intensity: 1000mcd; Peak Wavelength: 465nm; Category: Signal LEDs; Match Code: WL-SMTW; ComponentLink1Description: Website Link; ComponentLink1URL: https://www.we-online.com/redexpert/article/150505BS73300?ad; ComponentLink2Description: Datasheet Link; ComponentLink2URL: https://www.we-online.com/redexpert/spec/150505BS73300?ad; Mount: Surface Mount; Operating Temperature Max: 85°C; Operating Temperature Min: -40°C; Packaging: Tape and Reel; Length: 5.4mm; Width: 5mm; Height: 1.6mm; Emitting Color: Blue; Forward Voltage: 3.3V; Viewing Angle: 120°
footprint WL-SMTW_5050
simulation model 5050_150505BS73300
pins: 1 K, 2 A, 3 K, 4 A, 5 K, 6 A